# EAGLE library part EI38-2 (library 0TRAFO)
TRANSFORMER 1 primary winding, 2 secondary windings ERA
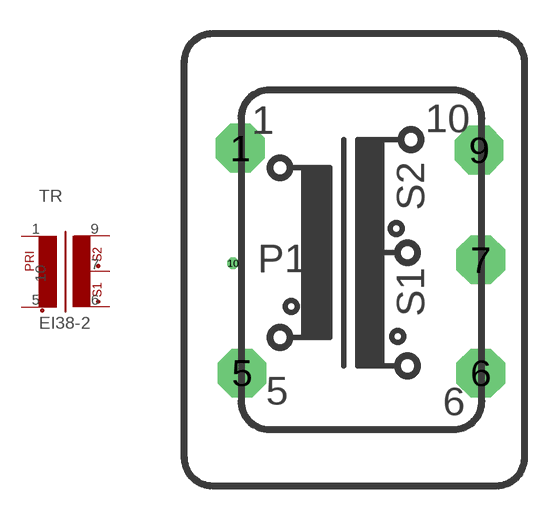
[diagram p35: symbol with the pads of EI38-2; footprint EI38-2]

Designator prefix TR

## EI38-2  [EI38-2]
1  1  pas
5  2  pas
6  3  pas
7  4  pas
9  5  pas
10  6  pas

## Footprint EI38-2 (pad centres in mm)
TRANSFORMER 1 primary winding, 2 secondary windings
drill 1 pad 2.184 octagon: 1 -5.115,5.007; 5 -5.036,-5.086; 6 5.671,-5.086; 7 5.671,-0.003; 9 5.591,4.925
drill 0 octagon: 10 -5.442,-0.152